# Altium footprint library TST-105-01-G-D.PcbLib: 1 footprints
Each footprint in its own frame and in the unit in brackets; x right, y up, seen from the top. Pads: shape width x height; smd on the part's side, far side on the other; paste and mask are expansions set on the pad; w line width, h text height; cw(c..) or ccw(c..) is an arc to the next point about the centre after c.
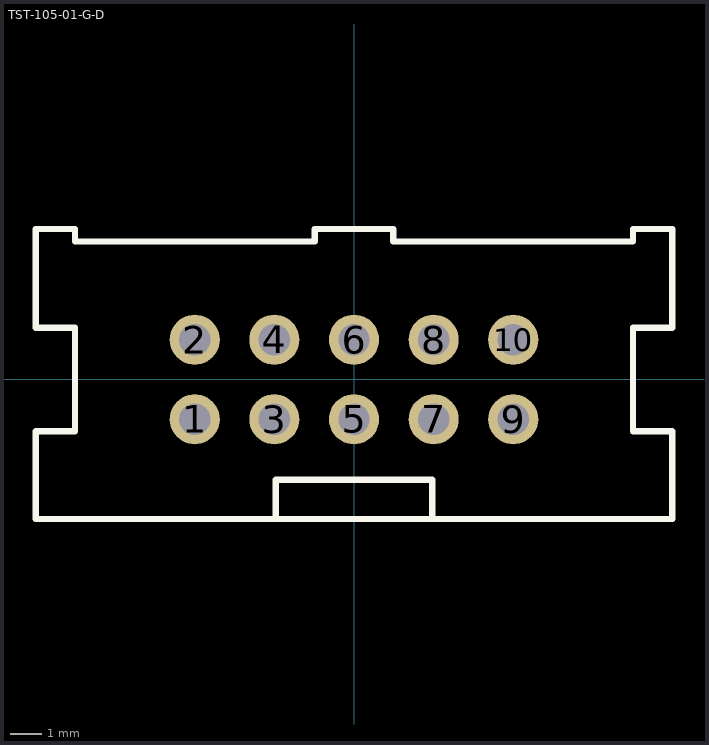
[diagram p0: the footprint, top view; thin cyan lines are the x and y axes]

## TST-105-01-G-D [mm]
pads (10):
  round 1.6 hole 1: 1(-5.08,-1.27) 2(-5.08,1.27) 3(-2.54,-1.27) 4(-2.54,1.27) 5(0,-1.27) 6(0,1.27) 7(2.54,-1.27) 8(2.54,1.27) 9(5.08,-1.27) 10(5.08,1.27)
Top Overlay:
  lines w0.2: -2.5,-4.45 2.5,-4.45 ; -2.5,-4.45 -10.15,-4.45 -10.15,-1.65 -8.9,-1.65 -8.9,1.65 -10.15,1.65 -10.15,4.8 -8.9,4.8 -8.9,4.4 -1.25,4.4 -1.25,4.8 1.25,4.8 1.25,4.4 8.9,4.4 8.9,4.8 10.15,4.8 10.15,1.65 8.9,1.65 8.9,-1.65 10.15,-1.65 10.15,-4.45 2.5,-4.45 ; -2.5,-4.45 -2.5,-3.2 2.5,-3.2 2.5,-4.45
3D body "TST-105-01-G-D.stp": height 8.89, standoff -3.3, extent -10.16,-4.445 10.16,4.826